# Altium footprint library PCB - RESISTOR - CHIP - TC42X2105E.PCBLIB: 1 footprints
Each footprint in its own frame and in the unit in brackets; x right, y up, seen from the top. Pads: shape width x height; smd on the part's side, far side on the other; paste and mask are expansions set on the pad; w line width, h text height; cw(c..) or ccw(c..) is an arc to the next point about the centre after c.
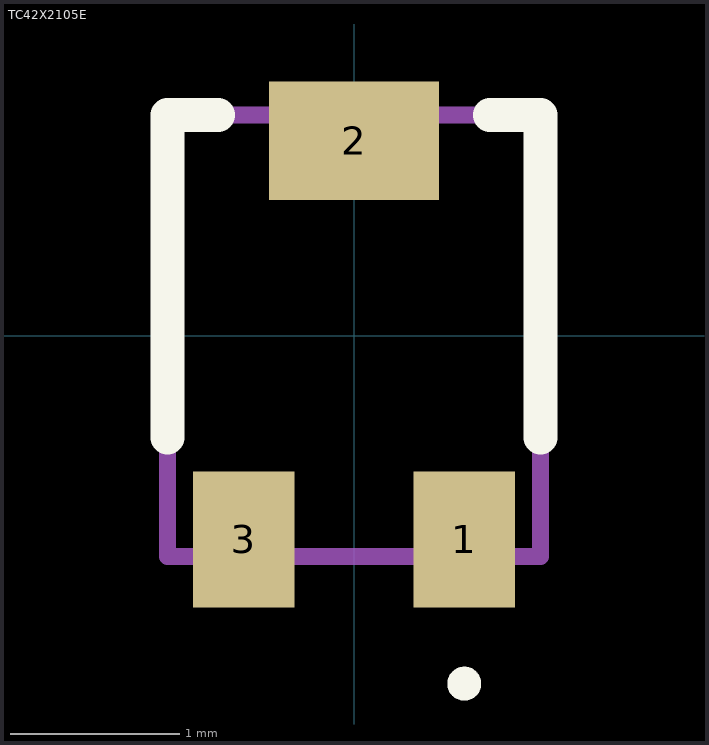
[diagram p0: the footprint, top view; thin cyan lines are the x and y axes]

## TC42X2105E [mm]
pads (3):
  rect 0.6x0.8 smd: 1(0.65,-1.2) 3(-0.65,-1.2)
  rect 1x0.7 smd: 2(0,1.15)
Top Overlay:
  lines w0.1: 0.65,-2.1 cw(c0.65,-2.05) 0.65,-2 cw(c0.65,-2.05) 0.65,-2.1
  lines w0.2: -1.1,-0.6 -1.1,1.3 -0.8,1.3 ; 0.8,1.3 1.1,1.3 1.1,-0.6
Top Value (Mech13):
  lines w0.1: -1.1,-1.3 -1.1,1.3 1.1,1.3 1.1,-1.3 -1.1,-1.3
3D body "TC42X-2-105E.stp": height 0.74, standoff -0.05, extent -1.105,-1.448 1.105,1.397